# Altium footprint library PcbLib1.PcbLib: 43 footprints (part 2 of 3)
Each footprint in its own frame and in the unit in brackets; x right, y up, seen from the top. Pads: shape width x height; smd on the part's side, far side on the other; paste and mask are expansions set on the pad; w line width, h text height; cw(c..) or ccw(c..) is an arc to the next point about the centre after c.
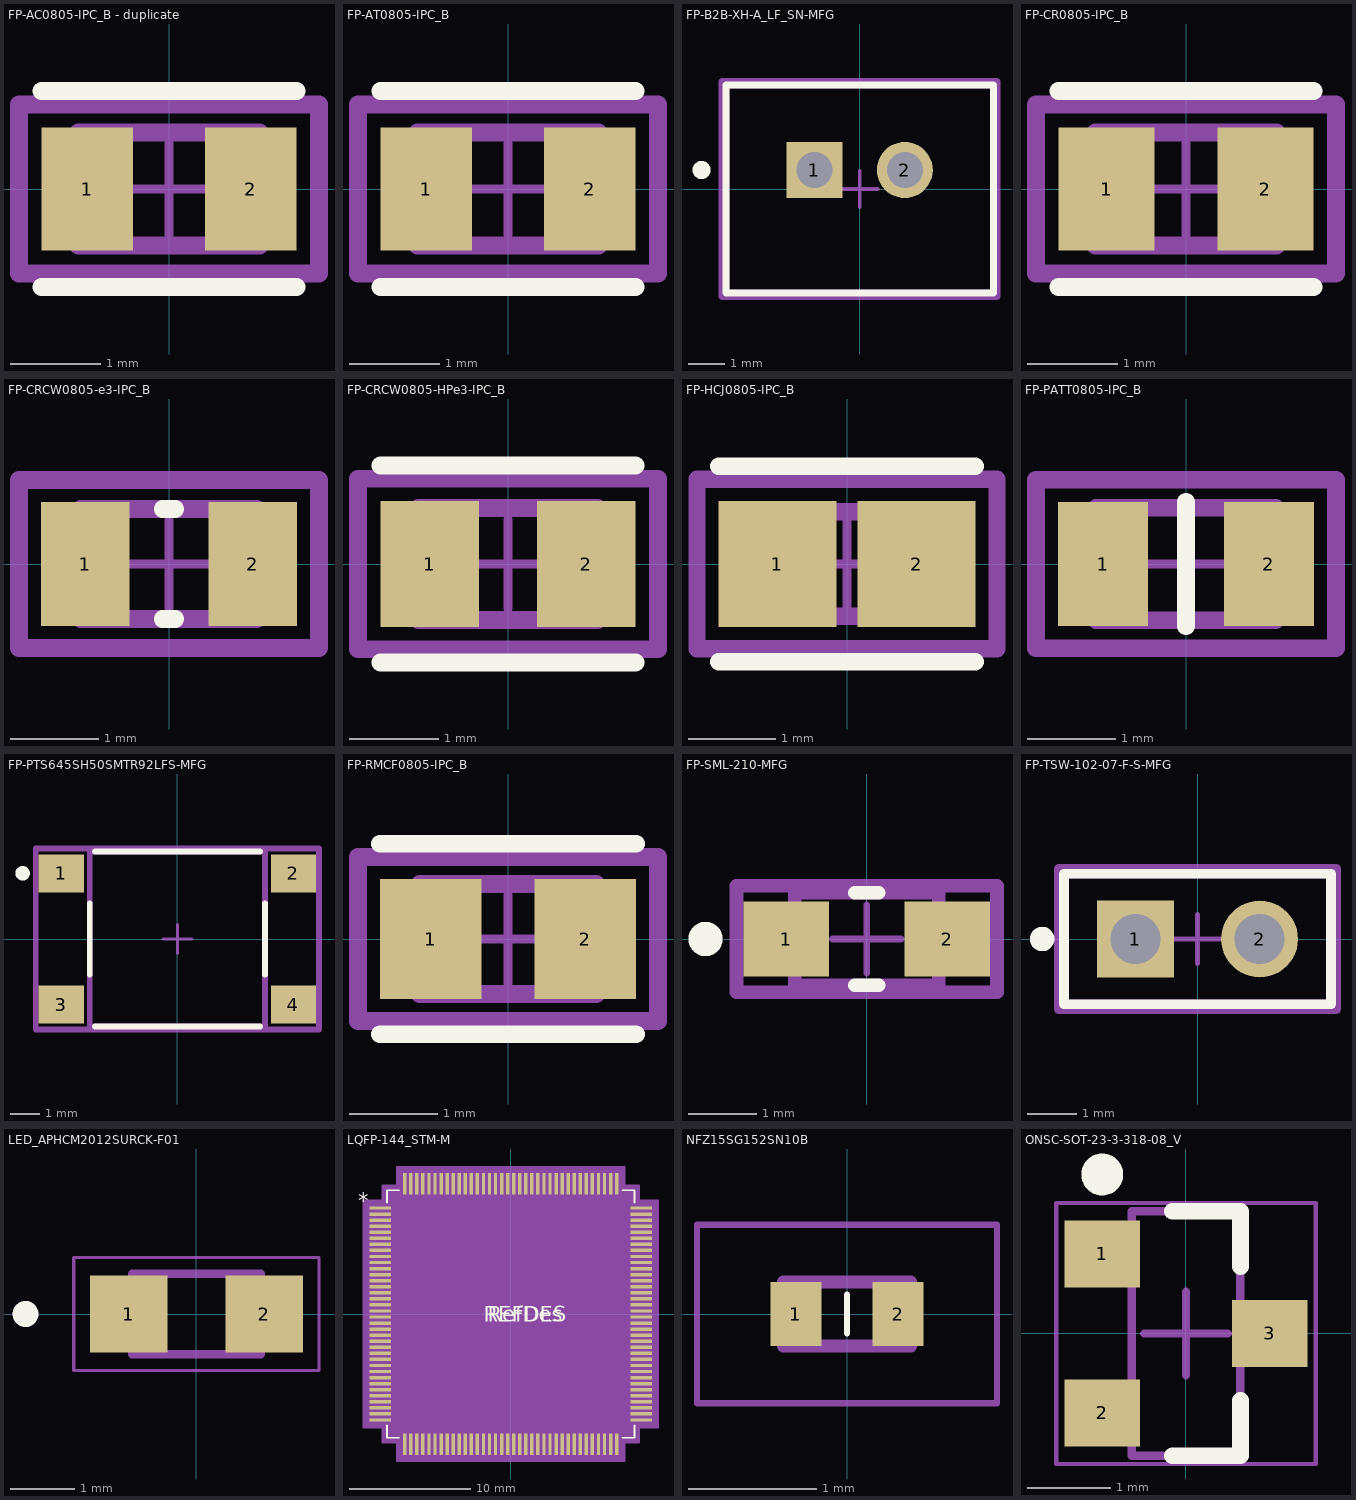
[diagram p1: the footprints below, top view; thin cyan lines are the x and y axes]

## FP-AC0805-IPC_B - duplicate [mm]
pads (2):
  rect 1.008x1.362 smd paste+0 mask+0: 1(-0.902,0) 2(0.902,0)
Top Overlay:
  lines w0.2: -1.406,-1.081 1.406,-1.081 ; -1.406,1.081 1.406,1.081
Top Assembly:
  lines w0.2: -1.656,-0.931 1.656,-0.931 1.656,0.931 -1.656,0.931 -1.656,-0.931
  text ".Designator" at 0,0.188 h1
Top 3D Body:
  lines w0.2: -1,-0.625 1,-0.625 1,0.625 -1,0.625 -1,-0.625
Top Courtyard:
  lines w0.2: -1.656,-0.931 1.656,-0.931 1.656,0.931 -1.656,0.931 -1.656,-0.931
Top Component Center:
  lines w0.1: -0.5,0 0.5,0 ; 0,-0.5 0,0.5
3D body "Res_Yageo_AC0805FR-074R22L_eec.STEP": height 0.25, standoff 0, extent -1.656,-0.931 1.656,0.931

## FP-AT0805-IPC_B [mm]
pads (2):
  rect 1.008x1.362 smd paste+0 mask+0: 1(-0.902,0) 2(0.902,0)
Top Overlay:
  lines w0.2: -1.406,-1.081 1.406,-1.081 ; -1.406,1.081 1.406,1.081
Top Assembly:
  lines w0.2: -1.656,-0.931 1.656,-0.931 1.656,0.931 -1.656,0.931 -1.656,-0.931
  text ".Designator" at 0,0.188 h1
Top 3D Body:
  lines w0.2: -1,-0.625 1,-0.625 1,0.625 -1,0.625 -1,-0.625
Top Courtyard:
  lines w0.2: -1.656,-0.931 1.656,-0.931 1.656,0.931 -1.656,0.931 -1.656,-0.931
Top Component Center:
  lines w0.1: -0.5,0 0.5,0 ; 0,-0.5 0,0.5
3D body "Res_Yageo_AT0805BRA0710KL_eec.STEP": height 0.25, standoff 0, extent -1.656,-0.931 1.656,0.931

## FP-B2B-XH-A_LF_SN-MFG [mm]
pads (2):
  rect 1.55x1.55 hole 1 paste-2539.97 mask+0: 1(-1.25,0.525)
  round 1.55 hole 1 paste-2539.97 mask+0: 2(1.25,0.525)
Top Overlay:
  circle w0.25: c-4.375,0.525 r0.125
  lines w0.2: -3.7,-2.875 -3.7,2.875 3.7,2.875 3.7,-2.875 -3.7,-2.875
Top Assembly:
  lines w0.2: -3.8,-2.975 -3.8,2.975 3.8,2.975 3.8,-2.975 -3.8,-2.975
  text ".Designator" at 0,0.188 h1
Top 3D Body:
  lines w0.2: -3.7,-2.875 -3.7,2.875 3.7,2.875 3.7,-2.875 -3.7,-2.875
Top Courtyard:
  lines w0.2: -3.8,-2.975 -3.8,2.975 3.8,2.975 3.8,-2.975 -3.8,-2.975
Top Component Center:
  lines w0.1: -0.5,0 0.5,0 ; 0,-0.5 0,0.5
3D body "Conn_JST_B2B-XH-A_LF_SN_eec.STEP": height 0.25, standoff 0, extent -3.8,-2.975 3.8,2.975

## FP-CR0805-IPC_B [mm]
pads (2):
  rect 1.058x1.362 smd paste+0 mask+0: 1(-0.877,0) 2(0.877,0)
Top Overlay:
  lines w0.2: -1.406,-1.081 1.406,-1.081 ; -1.406,1.081 1.406,1.081
Top Assembly:
  lines w0.2: -1.656,-0.931 -1.656,0.931 1.656,0.931 1.656,-0.931 -1.656,-0.931
  text ".Designator" at 0,0.188 h1
Top 3D Body:
  lines w0.2: -1,-0.625 -1,0.625 1,0.625 1,-0.625 -1,-0.625
Top Courtyard:
  lines w0.2: -1.656,-0.931 -1.656,0.931 1.656,0.931 1.656,-0.931 -1.656,-0.931
Top Component Center:
  lines w0.1: -0.5,0 0.5,0 ; 0,-0.5 0,0.5
3D body "Res_Bourns_CR0805AFW-22R1EAS_eec.STEP": height 0.25, standoff 0, extent -1.656,-0.931 1.656,0.931

## FP-CRCW0805-e3-IPC_B [mm]
pads (2):
  rect 1.007x1.408 smd paste+0 mask+0: 1(-0.951,0) 2(0.951,0)
Top Overlay:
  lines w0.2: -0.073,-0.625 0.073,-0.625 ; -0.073,0.625 0.073,0.625
Top Assembly:
  lines w0.2: -1.704,-0.954 1.704,-0.954 1.704,0.954 -1.704,0.954 -1.704,-0.954
  text ".Designator" at 0,0.188 h1
Top 3D Body:
  lines w0.2: -1,-0.625 1,-0.625 1,0.625 -1,0.625 -1,-0.625
Top Courtyard:
  lines w0.2: -1.704,-0.954 1.704,-0.954 1.704,0.954 -1.704,0.954 -1.704,-0.954
Top Component Center:
  lines w0.1: -0.5,0 0.5,0 ; 0,-0.5 0,0.5
3D body "Res_Vishay_CRCW0805100KFKEA_eec.STEP": height 0.25, standoff 0, extent -1.704,-0.954 1.704,0.954

## FP-CRCW0805-HPe3-IPC_B [mm]
pads (2):
  rect 1.106x1.408 smd paste+0 mask+0: 1(-0.876,0) 2(0.876,0)
Top Overlay:
  lines w0.2: -1.429,-1.104 1.429,-1.104 ; -1.429,1.104 1.429,1.104
Top Assembly:
  lines w0.2: -1.679,-0.954 1.679,-0.954 1.679,0.954 -1.679,0.954 -1.679,-0.954
  text ".Designator" at 0,0.188 h1
Top 3D Body:
  lines w0.2: -1,-0.625 1,-0.625 1,0.625 -1,0.625 -1,-0.625
Top Courtyard:
  lines w0.2: -1.679,-0.954 1.679,-0.954 1.679,0.954 -1.679,0.954 -1.679,-0.954
Top Component Center:
  lines w0.1: -0.5,0 0.5,0 ; 0,-0.5 0,0.5
3D body "Res_Vishay_CRCW08053R00FKEAHP_eec.STEP": height 0.25, standoff 0, extent -1.679,-0.954 1.679,0.954

## FP-HCJ0805-IPC_B [mm]
pads (2):
  rect 1.354x1.455 smd paste+0 mask+0: 1(-0.8,0) 2(0.8,0)
Top Overlay:
  lines w0.2: -1.477,-1.127 1.477,-1.127 ; -1.477,1.127 1.477,1.127
Top Assembly:
  lines w0.2: -1.727,-0.977 -1.727,0.977 1.727,0.977 1.727,-0.977 -1.727,-0.977
  text ".Designator" at 0,0.188 h1
Top 3D Body:
  lines w0.2: -1,-0.6 -1,0.6 1,0.6 1,-0.6 -1,-0.6
Top Courtyard:
  lines w0.2: -1.727,-0.977 -1.727,0.977 1.727,0.977 1.727,-0.977 -1.727,-0.977
Top Component Center:
  lines w0.1: -0.5,0 0.5,0 ; 0,-0.5 0,0.5
3D body "Res_Stackpole_HCJ0805ZT0R00_eec.STEP": height 0.25, standoff 0, extent -1.727,-0.977 1.727,0.977

## FP-PATT0805-IPC_B [mm]
pads (2):
  rect 1.017x1.407 smd paste+0 mask+0: 1(-0.938,0) 2(0.938,0)
Top Overlay:
  lines w0.2: 0,-0.703 0,0.703
Top Assembly:
  lines w0.2: -1.696,-0.953 -1.696,0.953 1.696,0.953 1.696,-0.953 -1.696,-0.953
  text ".Designator" at 0,-0.001 h1
Top 3D Body:
  lines w0.2: -1.016,-0.635 -1.016,0.635 1.016,0.635 1.016,-0.635 -1.016,-0.635
Top Courtyard:
  lines w0.2: -1.696,-0.953 -1.696,0.953 1.696,0.953 1.696,-0.953 -1.696,-0.953
Top Component Center:
  lines w0.1: -0.5,0 0.5,0 ; 0,-0.5 0,0.5
3D body "Res_Vishay_PATT0805E1001BGT1_eec.STEP": height 0.25, standoff 0, extent -1.696,-0.953 1.696,0.953

## FP-PTS645SH50SMTR92LFS-MFG [mm]
pads (4):
  rect 1.55x1.3 smd paste+0 mask+0: 1(-3.975,2.25) 2(3.975,2.25) 3(-3.975,-2.25) 4(3.975,-2.25)
Top Overlay:
  circle w0.25: c-5.3,2.25 r0.125
  lines w0.2: -3,-1.225 -3,1.225 ; -2.825,-3 2.825,-3 ; -2.825,3 2.825,3 ; 3,-1.225 3,1.225
Top Assembly:
  lines w0.2: -4.85,-3.1 -4.85,3.1 4.85,3.1 4.85,-3.1 -4.85,-3.1
  text ".Designator" at 0,0.188 h1
Top 3D Body:
  lines w0.2: -3,-3 -3,3 3,3 3,-3 -3,-3
Top Courtyard:
  lines w0.2: -4.85,-3.1 -4.85,3.1 4.85,3.1 4.85,-3.1 -4.85,-3.1
Top Component Center:
  lines w0.1: -0.5,0 0.5,0 ; 0,-0.5 0,0.5
3D body "Switch_C&K_PTS645SH50SMTR92LFS_eec.STEP": height 0.25, standoff 0, extent -4.85,-3.1 4.85,3.1

## FP-RMCF0805-IPC_B [mm]
pads (2):
  rect 1.155x1.362 smd paste+0 mask+0: 1(-0.876,0) 2(0.876,0)
Top Overlay:
  lines w0.2: -1.453,-1.081 1.453,-1.081 ; -1.453,1.081 1.453,1.081
Top Assembly:
  lines w0.2: -1.703,-0.931 1.703,-0.931 1.703,0.931 -1.703,0.931 -1.703,-0.931
  text ".Designator" at 0,0.188 h1
Top 3D Body:
  lines w0.2: -1,-0.625 1,-0.625 1,0.625 -1,0.625 -1,-0.625
Top Courtyard:
  lines w0.2: -1.703,-0.931 1.703,-0.931 1.703,0.931 -1.703,0.931 -1.703,-0.931
Top Component Center:
  lines w0.1: -0.5,0 0.5,0 ; 0,-0.5 0,0.5
3D body "Res_Stackpole_Electronics_RMCF0805JT220K_eec.STEP": height 0.25, standoff 0, extent -1.703,-0.931 1.703,0.931

## FP-SML-210-MFG [mm] "LED GREEN CLEAR 2012 SMD"
pads (2):
  rect 1.25x1.1 smd paste+0 mask+0: 1(-1.175,0) 2(1.175,0)
Top Overlay:
  circle w0.25: c-2.35,0 r0.125
  lines w0.2: -0.175,-0.675 0.175,-0.675 ; -0.175,0.675 0.175,0.675
Top Assembly:
  lines w0.2: -1.9,-0.775 -1.9,0.775 1.9,0.775 1.9,-0.775 -1.9,-0.775
  text ".Designator" at 0,-0.001 h1
Top 3D Body:
  lines w0.2: -1.05,-0.675 -1.05,0.675 1.05,0.675 1.05,-0.675 -1.05,-0.675
Top Courtyard:
  lines w0.2: -1.9,-0.775 -1.9,0.775 1.9,0.775 1.9,-0.775 -1.9,-0.775
Top Component Center:
  lines w0.1: -0.5,0 0.5,0 ; 0,-0.5 0,0.5
3D body "Diode_ROHM_SML-210MTT86_eec.STEP": height 0.25, standoff 0, extent -1.9,-0.775 1.9,0.775

## FP-TSW-102-07-F-S-MFG [mm]
pads (2):
  rect 1.57x1.57 hole 1.02 paste-2539.97 mask+0: 1(-1.27,0)
  round 1.57 hole 1.02 paste-2539.97 mask+0: 2(1.27,0)
Top Overlay:
  circle w0.25: c-3.175,0 r0.125
  lines w0.2: -2.73,-1.335 -2.73,1.335 2.73,1.335 2.73,-1.335 -2.73,-1.335
Top Assembly:
  lines w0.2: -2.83,-1.435 -2.83,1.435 2.83,1.435 2.83,-1.435 -2.83,-1.435
  text ".Designator" at 0,0.188 h1
Top 3D Body:
  lines w0.2: -2.73,-1.335 -2.73,1.335 2.73,1.335 2.73,-1.335 -2.73,-1.335
Top Courtyard:
  lines w0.2: -2.83,-1.435 -2.83,1.435 2.83,1.435 2.83,-1.435 -2.83,-1.435
Top Component Center:
  lines w0.1: -0.5,0 0.5,0 ; 0,-0.5 0,0.5
3D body "Conn_Samtec_TSW-102-07-F-S_eec.STEP": height 0.25, standoff 0, extent -2.83,-1.435 2.83,1.435

## LED_APHCM2012SURCK-F01 [mm]
pads (2):
  rect 1.2x1.2 smd: 1(-1.05,0) 2(1.05,0)
Top Overlay:
  circle w0.2: c-2.65,0 r0.1
Top 3D Body:
  circle w0.2: c-2.65,0 r0.1
  lines w0.127: -1,-0.625 -1,0.625 1,0.625 1,-0.625 -1,-0.625
Top Courtyard:
  lines w0.05: -1.9,-0.875 1.9,-0.875 1.9,0.875 -1.9,0.875 -1.9,-0.875
3D body "step_temp.STEP": height 1.1, standoff 0, extent -1,-0.625 1,0.625

## LQFP-144_STM-M [mil]
pads (144):
  rect 70x11 smd paste+0 mask+0: 1(-424,344.49) 2(-424,324.8) 3(-424,305.12) 4(-424,285.43) 5(-424,265.75) 6(-424,246.06) 7(-424,226.38) 8(-424,206.69) 9(-424,187.01) 10(-424,167.32) 11(-424,147.64) 12(-424,127.95) 13(-424,108.27) 14(-424,88.58) 15(-424,68.9) 16(-424,49.21) 17(-424,29.53) 18(-424,9.84) 19(-424,-9.84) 20(-424,-29.53) 21(-424,-49.21) 22(-424,-68.9) 23(-424,-88.58) 24(-424,-108.27) 25(-424,-127.95) 26(-424,-147.64) 27(-424,-167.32) 28(-424,-187.01) 29(-424,-206.69) 30(-424,-226.38) 31(-424,-246.06) 32(-424,-265.75) 33(-424,-285.43) 34(-424,-305.12) 35(-424,-324.8) 36(-424,-344.49) 73(424,-344.49) 74(424,-324.8) 75(424,-305.12) 76(424,-285.43) 77(424,-265.75) 78(424,-246.06) 79(424,-226.38) 80(424,-206.69) 81(424,-187.01) 82(424,-167.32) 83(424,-147.64) 84(424,-127.95) 85(424,-108.27) 86(424,-88.58) 87(424,-68.9) 88(424,-49.21) 89(424,-29.53) 90(424,-9.84) 91(424,9.84) 92(424,29.53) 93(424,49.21) 94(424,68.9) 95(424,88.58) 96(424,108.27) 97(424,127.95) 98(424,147.64) 99(424,167.32) 100(424,187.01) 101(424,206.69) 102(424,226.38) 103(424,246.06) 104(424,265.75) 105(424,285.43) 106(424,305.12) 107(424,324.8) 108(424,344.49)
  rect 11x70 smd paste+0 mask+0: 37(-344.49,-424) 38(-324.8,-424) 39(-305.12,-424) 40(-285.43,-424) 41(-265.75,-424) 42(-246.06,-424) 43(-226.38,-424) 44(-206.69,-424) 45(-187.01,-424) 46(-167.32,-424) 47(-147.64,-424) 48(-127.95,-424) 49(-108.27,-424) 50(-88.58,-424) 51(-68.9,-424) 52(-49.21,-424) 53(-29.53,-424) 54(-9.84,-424) 55(9.84,-424) 56(29.53,-424) 57(49.21,-424) 58(68.9,-424) 59(88.58,-424) 60(108.27,-424) 61(127.95,-424) 62(147.64,-424) 63(167.32,-424) 64(187.01,-424) 65(206.69,-424) 66(226.38,-424) 67(246.06,-424) 68(265.75,-424) 69(285.43,-424) 70(305.12,-424) 71(324.8,-424) 72(344.49,-424) 109(344.49,424) 110(324.8,424) 111(305.12,424) 112(285.43,424) 113(265.75,424) 114(246.06,424) 115(226.38,424) 116(206.69,424) 117(187.01,424) 118(167.32,424) 119(147.64,424) 120(127.95,424) 121(108.27,424) 122(88.58,424) 123(68.9,424) 124(49.21,424) 125(29.53,424) 126(9.84,424) 127(-9.84,424) 128(-29.53,424) 129(-49.21,424) 130(-68.9,424) 131(-88.58,424) 132(-108.27,424) 133(-127.95,424) 134(-147.64,424) 135(-167.32,424) 136(-187.01,424) 137(-206.69,424) 138(-226.38,424) 139(-246.06,424) 140(-265.75,424) 141(-285.43,424) 142(-305.12,424) 143(-324.8,424) 144(-344.49,424)
Top Overlay:
  lines w6: -402.5,-363.09 -402.5,-402.5 -363.09,-402.5 ; -402.5,363.09 -402.5,402.5 -363.09,402.5 ; 363.09,-402.5 402.5,-402.5 402.5,-363.09 ; 363.09,402.5 402.5,402.5 402.5,363.09
  text "REFDES" at -87.5,-25 h50
  text "RefDes" at -75,-25 h50
  text "*" at -496.5,344.33 h50
Top 3D Body:
  drawing of 581 lines, arcs and shapes, not listed
  text "RefDes2" at -87.5,-25 h50
  text "*" at -395,329.33 h50
Top Courtyard:
  region: -369.99,-417.5 -417.5,-417.5 -417.5,-369.99 -479,-369.99 -479,369.99 -417.5,369.99 -417.5,417.5 -369.99,417.5 -369.99,479 369.99,479 369.99,417.5 417.5,417.5 417.5,369.99 479,369.99 479,-369.99 417.5,-369.99 417.5,-417.5 369.99,-417.5 369.99,-479 -369.99,-479
  lines w6: -479,-369.99 -479,369.99 -417.5,369.99 -417.5,417.5 -369.99,417.5 -369.99,479 369.99,479 369.99,417.5 417.5,417.5 417.5,369.99 479,369.99 479,-369.99 417.5,-369.99 417.5,-417.5 369.99,-417.5 369.99,-479 -369.99,-479 -369.99,-417.5 -417.5,-417.5 -417.5,-369.99 -479,-369.99
3D body "LQFP-144_STM.step": height 63.11, standoff 0, extent -437.01,-437.01 437.01,437.01

## NFZ15SG152SN10B [mm]
pads (2):
  rect 0.4x0.5 smd: 1(-0.4,0) 2(0.4,0)
Top Overlay:
  lines w0.05: 0,-0.15 0,0.15
Top 3D Body:
  lines w0.1: -0.5,-0.25 -0.5,0.25 0.5,0.25 0.5,-0.25 -0.5,-0.25
Top Courtyard:
  lines w0.05: -1.175,-0.7 -1.175,0.7 1.175,0.7 1.175,-0.7 -1.175,-0.7
3D body "BLM15AG100PN1D.stp": height 0.5, standoff 0, extent -0.5,-0.25 0.5,0.25

## ONSC-SOT-23-3-318-08_V [mm] "SOT23, 3-Leads, Body 2.92x1.3mm, Pitch 0.95mm"
height 1.11
pads (3):
  rect 0.9x0.8 smd: 1(-1,0.95) 2(-1,-0.95) 3(1,0)
Top Overlay:
  circle w0.25: c-1,1.9 r0.125
  lines w0.2: -0.165,-1.46 0.65,-1.46 0.65,-0.8 ; -0.165,1.46 0.65,1.46 0.65,0.8
Top 3D Body:
  lines w0.1: -0.65,-1.46 -0.65,1.46 0.65,1.46 0.65,-1.46 -0.65,-1.46
Top Courtyard:
  lines w0.05: -1.55,-1.56 -1.55,1.56 1.55,1.56 1.55,-1.56 -1.55,-1.56
  lines w0.1: -0.5,0 0.5,0 ; 0,-0.5 0,0.5
3D body: height 1.11, standoff 0.01, extent -0.65,-1.46 0.65,1.46